# EAGLE library part 418217270908A (library Wurth_Switch_WS-DITU)
WS-DITU Compact THT Right Angled with Raised Actuator 2.54 mm Mechanical Properties Operation Force:800 g Electrical Life:2000 Cycles Actuator Type:Raise Type Properties IR:25 mA VR:24 V (DC) IR:100 mA VR:50 V (DC) Contact Resistance Initial:50 mΩ Contact Resistance After Life Test:100 mΩ RISO:100 MΩ Withstanding Voltage:500 V (AC) Actuator Type:Raise Type Material Properties Cover Material:PBT Cover Flammability Rating:UL94 V-0 Cover Color:Red Base Material:PBT Base Flammability Rating:UL94 V-0 Base Color:Black Actuator Material:PBT Actuator Flammability Rating:UL94 V-0 Actuator Color:White Contact Material:Copper Alloy Contact Plating:Gold Terminal Material:Copper Alloy Terminal Plating:Gold General Information Operating Temperature:-40 up to +85 °C Packaging Properties Packaging:Tube <https://www.we-online.com/catalog/media/o93597v209%20Family_DITU_2_54_COMPACT_THT_RIGHT_ANGLED_WITH_RAISED_ACTUATOR_A_TYPE.jpg> Details see: https://www.we-online.com/catalog/en/DITU_2_54_COMPACT_THT_RIGHT_ANGLED_WITH_RAISED_ACTUATOR_A_TYPE/ Updated by Yingchun, Shan 2020-01-23 2020 (C) Würth Elektronik
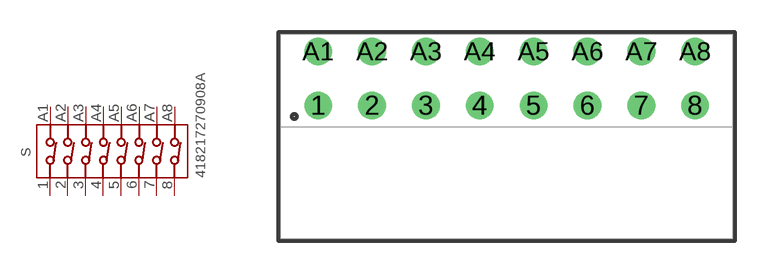
[diagram p3: symbol with the pads of 418217270908A; footprint 418217270908A]

Designator prefix S

## 418217270908A (DATASHEET-URL: https://www.we-online.com/catalog/datasheet/418217270908A.pdf; PART-NUMBER: 418217270908A; PINS: 8; QTY: 23)  [418217270908A]
1  1  pas
2  2  pas
3  3  pas
4  4  pas
5  5  pas
6  6  pas
7  7  pas
8  8  pas
A1  A1  pas
A2  A2  pas
A3  A3  pas
A4  A4  pas
A5  A5  pas
A6  A6  pas
A7  A7  pas
A8  A8  pas

## Footprint 418217270908A (pad centres in mm)
WS-DITU Compact THT Right Angled with Raised Actuator 2.54 mm,8Poles
drill 0.8: 1 -8.89,1.46; 2 -6.35,1.46; 3 -3.81,1.46; 4 -1.27,1.46; 5 1.27,1.46; 6 3.81,1.46; 7 6.35,1.46; 8 8.89,1.46; A1 -8.89,4; A2 -6.35,4; A3 -3.81,4; A4 -1.27,4; A5 1.27,4; A6 3.81,4; A7 6.35,4; A8 8.89,4